# EAGLE library part LP55281 (library GTA04b7)
Quad RGB Driver
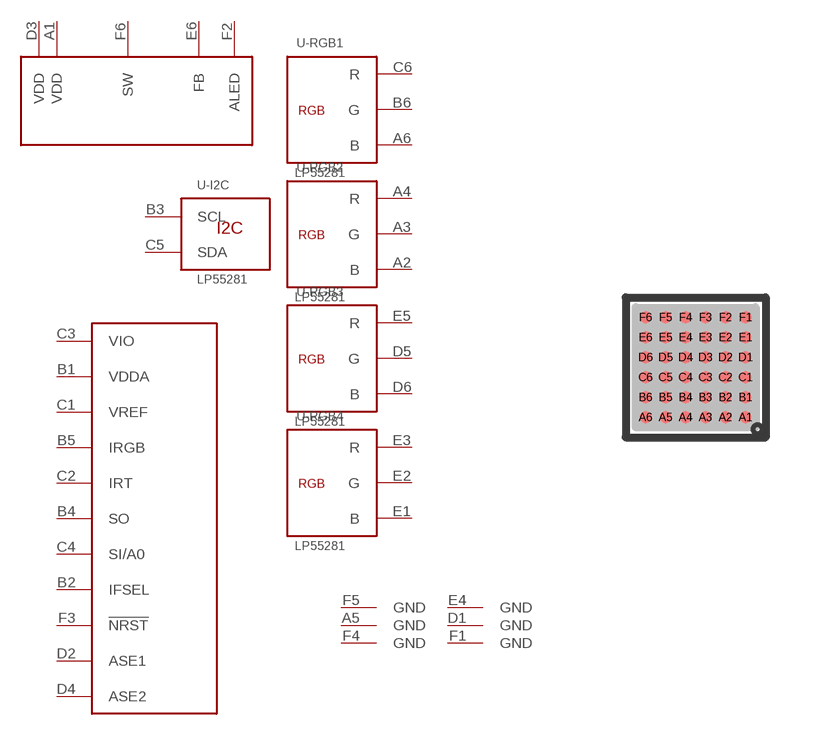
[diagram p26: symbol with the pads of YZR0036; footprint YZR0036]

Designator prefix -; gates -I2C=IF-I2C -RGB1=IF-RGB -RGB2=IF-RGB -RGB3=IF-RGB -RGB4=IF-RGB G$1=LP55281-BOOST G$2=LP55281-CTL GND@1=GND-PIN GND@2=GND-PIN GNDA=GND-PIN GND_RGB1=GND-PIN GND_RGB2=GND-PIN GND_SW=GND-PIN

## LP55281YZR  [YZR0036]
A1  G$1:VDD
A2  -RGB2:B
A3  -RGB2:G
A4  -RGB2:R
A5  GND_RGB1:GND  pwr
A6  -RGB1:B
B1  G$2:VDDA
B2  G$2:IFSEL
B3  -I2C:SCL
B4  G$2:SO
B5  G$2:IRGB
B6  -RGB1:G
C1  G$2:VREF
C2  G$2:IRT
C3  G$2:VIO
C4  G$2:SI/A0
C5  -I2C:SDA
C6  -RGB1:R
D1  GNDA:GND  pwr
D2  G$2:ASE1
D3  G$1:VDD
D4  G$2:ASE2
D5  -RGB3:G
D6  -RGB3:B
E1  -RGB4:B
E2  -RGB4:G
E3  -RGB4:R
E4  GND@1:GND  pwr
E5  -RGB3:R
E6  G$1:FB
F1  GND@2:GND  pwr
F2  G$1:ALED
F3  G$2:!NRST
F4  GND_RGB2:GND  pwr
F5  GND_SW:GND  pwr
F6  G$1:SW

## Footprint YZR0036 (pad centres in mm)
BGA-YZR0036-0.5mm
smd 0.3 x 0.3: A1 1.25,-1.25; A2 0.75,-1.25; A3 0.25,-1.25; A4 -0.25,-1.25; A5 -0.75,-1.25; A6 -1.25,-1.25; B1 1.25,-0.75; B2 0.75,-0.75; B3 0.25,-0.75; B4 -0.25,-0.75; B5 -0.75,-0.75; B6 -1.25,-0.75; C1 1.25,-0.25; C2 0.75,-0.25; C3 0.25,-0.25; C4 -0.25,-0.25; C5 -0.75,-0.25; C6 -1.25,-0.25; D1 1.25,0.25; D2 0.75,0.25; D3 0.25,0.25; D4 -0.25,0.25; D5 -0.75,0.25; D6 -1.25,0.25; E1 1.25,0.75; E2 0.75,0.75; E3 0.25,0.75; E4 -0.25,0.75; E5 -0.75,0.75; E6 -1.25,0.75; F1 1.25,1.25; F2 0.75,1.25; F3 0.25,1.25; F4 -0.25,1.25; F5 -0.75,1.25; F6 -1.25,1.25